# EAGLE library part ESP32-WROOM (library adv-w20)
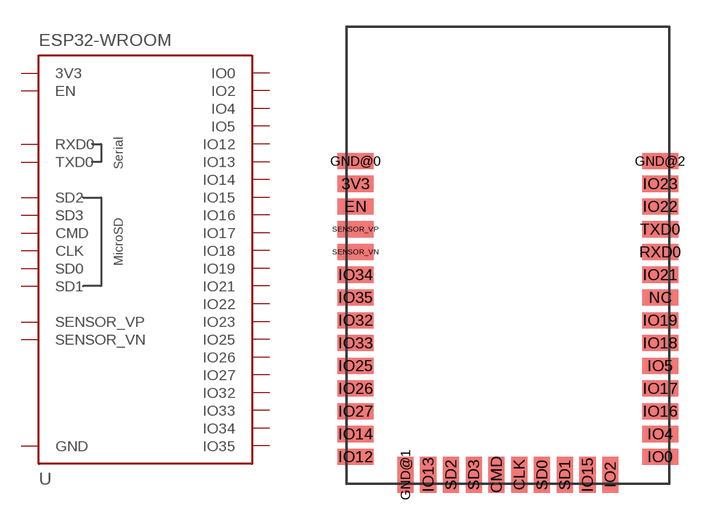
[diagram p1: symbol with the pads of ESP32-WROOM; footprint ESP32-WROOM]

Designator prefix -

## ESP32-WROOM  [ESP32-WROOM]
3V3  3V3
CLK  CLK
CMD  CMD
EN  EN
GND@0  GND
GND@1  GND
GND@2  GND
IO0  IO0
IO2  IO2
IO4  IO4
IO5  IO5
IO12  IO12
IO13  IO13
IO14  IO14
IO15  IO15
IO16  IO16
IO17  IO17
IO18  IO18
IO19  IO19
IO21  IO21
IO22  IO22
IO23  IO23
IO25  IO25
IO26  IO26
IO27  IO27
IO32  IO32
IO33  IO33
IO34  IO34
IO35  IO35
RXD0  RXD0
SD0  SD0
SD1  SD1
SD2  SD2
SD3  SD3
SENSOR_VN  SENSOR_VN
SENSOR_VP  SENSOR_VP
TXD0  TXD0

## Footprint ESP32-WROOM (pad centres in mm)
smd 2 x 0.9: 3V3 -8.5,6.74; EN -8.5,5.47; GND@0 -8.5,8.01; GND@2 8.5,8.01; IO0 8.5,-8.5; IO4 8.5,-7.23; IO5 8.5,-3.42; IO12 -8.5,-8.5; IO14 -8.5,-7.23; IO16 8.5,-5.96; IO17 8.5,-4.69; IO18 8.5,-2.15; IO19 8.5,-0.88; IO21 8.5,1.66; IO22 8.5,5.47; IO23 8.5,6.74; IO25 -8.5,-3.42; IO26 -8.5,-4.69; IO27 -8.5,-5.96; IO32 -8.5,-0.88; IO33 -8.5,-2.15; IO34 -8.5,1.66; IO35 -8.5,0.39; NC 8.5,0.39; RXD0 8.5,2.93; SENSOR_VN -8.5,2.93; SENSOR_VP -8.5,4.2; TXD0 8.5,4.2
smd 0.9 x 2: CLK 0.635,-9.5; CMD -0.635,-9.5; GND@1 -5.715,-9.5; IO2 5.715,-9.5; IO13 -4.445,-9.5; IO15 4.445,-9.5; SD0 1.905,-9.5; SD1 3.175,-9.5; SD2 -3.175,-9.5; SD3 -1.905,-9.5